# Altium footprint library Connector_PinSocket_2.54mm.PcbLib: 278 footprints (part 15 of 18)
Each footprint in its own frame and in the unit in brackets; x right, y up, seen from the top. Pads: shape width x height; smd on the part's side, far side on the other; paste and mask are expansions set on the pad; w line width, h text height; cw(c..) or ccw(c..) is an arc to the next point about the centre after c.
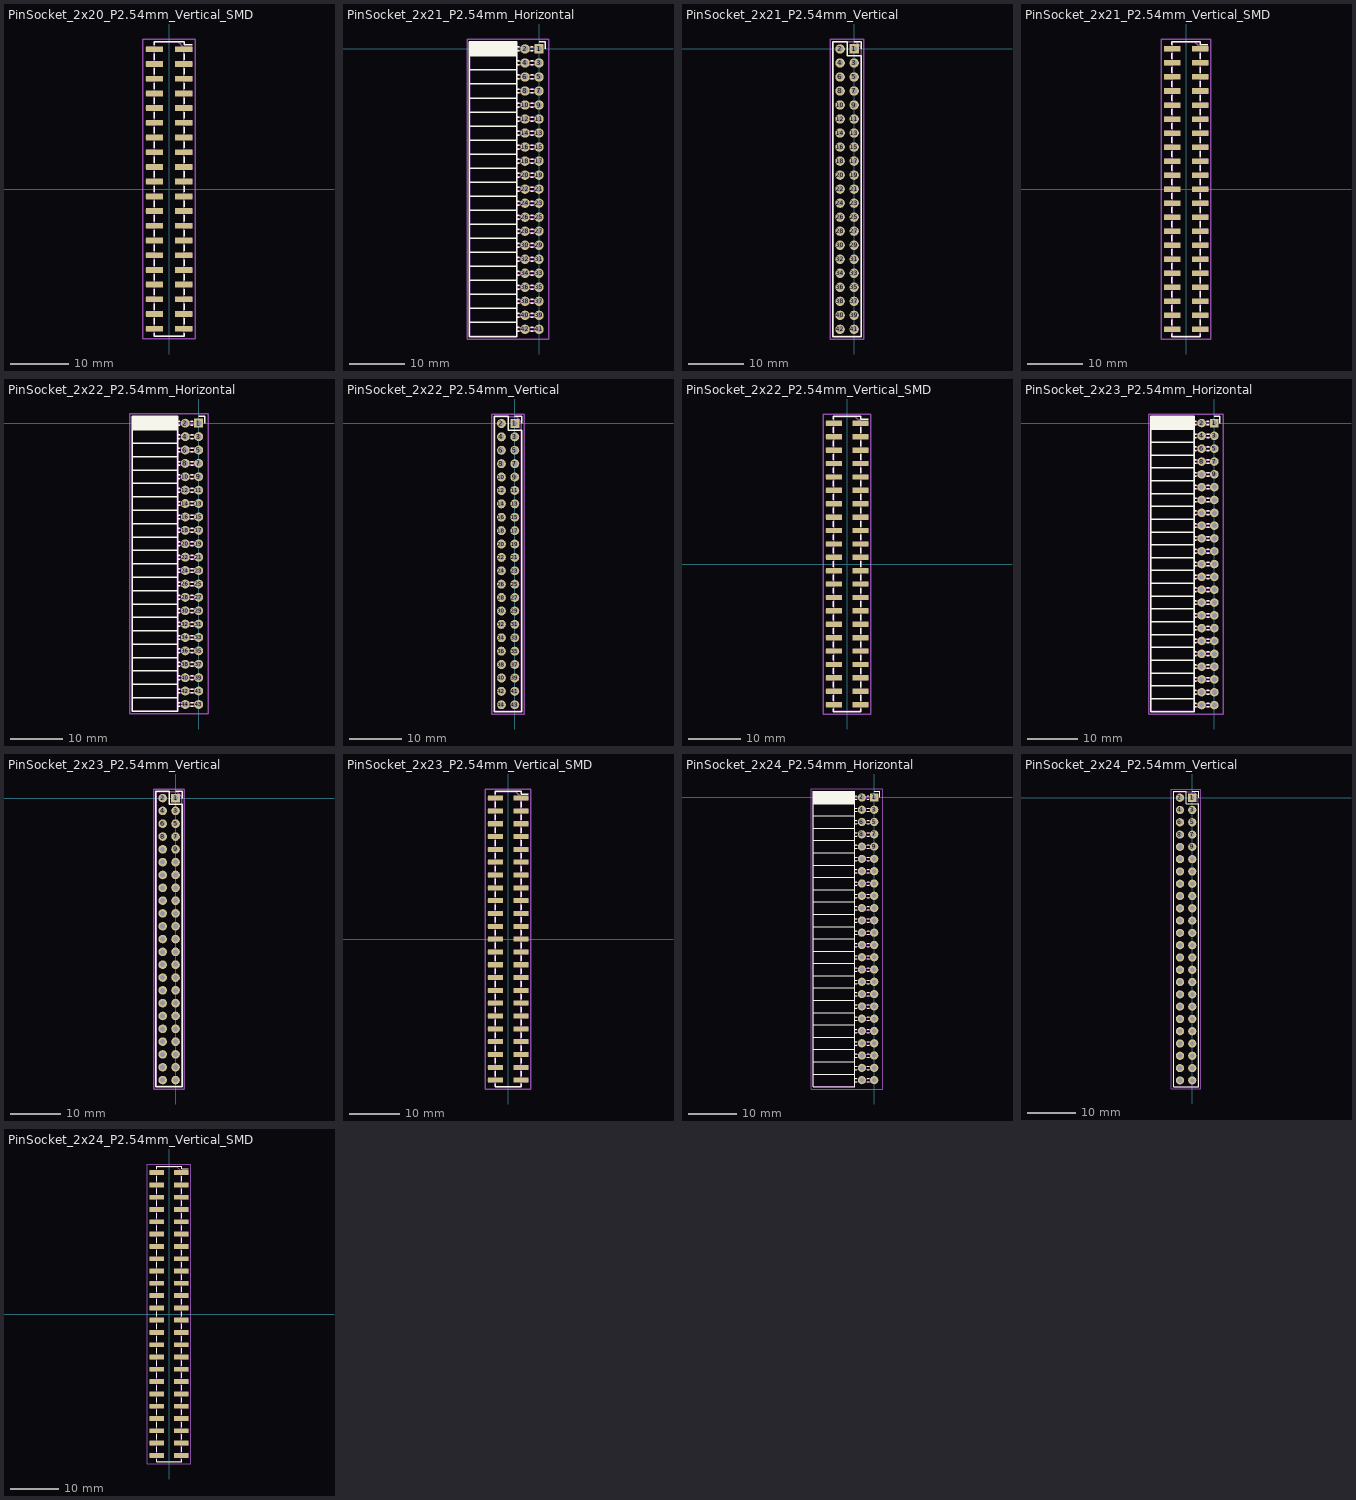
[diagram p14: the footprints below, top view; thin cyan lines are the x and y axes]

## PinSocket_2x20_P2.54mm_Vertical_SMD [mm]
pads (40):
  rect 3x1 smd: 1(2.52,24.13) 2(-2.52,24.13) 3(2.52,21.59) 4(-2.52,21.59) 5(2.52,19.05) 6(-2.52,19.05) 7(2.52,16.51) 8(-2.52,16.51) 9(2.52,13.97) 10(-2.52,13.97) 11(2.52,11.43) 12(-2.52,11.43) 13(2.52,8.89) 14(-2.52,8.89) 15(2.52,6.35) 16(-2.52,6.35) 17(2.52,3.81) 18(-2.52,3.81) 19(2.52,1.27) 20(-2.52,1.27) 21(2.52,-1.27) 22(-2.52,-1.27) 23(2.52,-3.81) 24(-2.52,-3.81) 25(2.52,-6.35) 26(-2.52,-6.35) 27(2.52,-8.89) 28(-2.52,-8.89) 29(2.52,-11.43) 30(-2.52,-11.43) 31(2.52,-13.97) 32(-2.52,-13.97) 33(2.52,-16.51) 34(-2.52,-16.51) 35(2.52,-19.05) 36(-2.52,-19.05) 37(2.52,-21.59) 38(-2.52,-21.59) 39(2.52,-24.13) 40(-2.52,-24.13)
F.SilkS:
  lines w0.254: -2.6,-24.89 -2.6,-25.46 2.6,-25.46 2.6,-24.89 ; -2.6,-23.37 -2.6,-22.35 ; -2.6,-20.83 -2.6,-19.81 ; -2.6,-18.29 -2.6,-17.27 ; -2.6,-15.75 -2.6,-14.73 ; -2.6,-13.21 -2.6,-12.19 ; -2.6,-10.67 -2.6,-9.65 ; -2.6,-8.13 -2.6,-7.11 ; -2.6,-5.59 -2.6,-4.57 ; -2.6,-3.05 -2.6,-2.03 ; -2.6,-0.51 -2.6,0.51 ; -2.6,2.03 -2.6,3.05 ; -2.6,4.57 -2.6,5.59 ; -2.6,7.11 -2.6,8.13 ; -2.6,9.65 -2.6,10.67 ; -2.6,12.19 -2.6,13.21 ; -2.6,14.73 -2.6,15.75 ; -2.6,17.27 -2.6,18.29 ; -2.6,19.81 -2.6,20.83 ; -2.6,22.35 -2.6,23.37 ; -2.6,24.89 -2.6,25.46 2.6,25.46 2.6,24.89 3.96,24.89 ; 2.6,-23.37 2.6,-22.35 ; 2.6,-20.83 2.6,-19.81 ; 2.6,-18.29 2.6,-17.27 ; 2.6,-15.75 2.6,-14.73 ; 2.6,-13.21 2.6,-12.19 ; 2.6,-10.67 2.6,-9.65 ; 2.6,-8.13 2.6,-7.11 ; 2.6,-5.59 2.6,-4.57 ; 2.6,-3.05 2.6,-2.03 ; 2.6,-0.51 2.6,0.51 ; 2.6,2.03 2.6,3.05 ; 2.6,4.57 2.6,5.59 ; 2.6,7.11 2.6,8.13 ; 2.6,9.65 2.6,10.67 ; 2.6,12.19 2.6,13.21 ; 2.6,14.73 2.6,15.75 ; 2.6,17.27 2.6,18.29 ; 2.6,19.81 2.6,20.83 ; 2.6,22.35 2.6,23.37
Top Assembly:
  lines w0.254: -2.54,-24.45 -3.92,-24.45 -3.92,-23.81 -2.54,-23.81 ; -2.54,-21.91 -3.92,-21.91 -3.92,-21.27 -2.54,-21.27 ; -2.54,-19.37 -3.92,-19.37 -3.92,-18.73 -2.54,-18.73 ; -2.54,-16.83 -3.92,-16.83 -3.92,-16.19 -2.54,-16.19 ; -2.54,-14.29 -3.92,-14.29 -3.92,-13.65 -2.54,-13.65 ; -2.54,-11.75 -3.92,-11.75 -3.92,-11.11 -2.54,-11.11 ; -2.54,-9.21 -3.92,-9.21 -3.92,-8.57 -2.54,-8.57 ; -2.54,-6.67 -3.92,-6.67 -3.92,-6.03 -2.54,-6.03 ; -2.54,-4.13 -3.92,-4.13 -3.92,-3.49 -2.54,-3.49 ; -2.54,-1.59 -3.92,-1.59 -3.92,-0.95 -2.54,-0.95 ; -2.54,0.95 -3.92,0.95 -3.92,1.59 -2.54,1.59 ; -2.54,3.49 -3.92,3.49 -3.92,4.13 -2.54,4.13 ; -2.54,6.03 -3.92,6.03 -3.92,6.67 -2.54,6.67 ; -2.54,8.57 -3.92,8.57 -3.92,9.21 -2.54,9.21 ; -2.54,11.11 -3.92,11.11 -3.92,11.75 -2.54,11.75 ; -2.54,13.65 -3.92,13.65 -3.92,14.29 -2.54,14.29 ; -2.54,16.19 -3.92,16.19 -3.92,16.83 -2.54,16.83 ; -2.54,18.73 -3.92,18.73 -3.92,19.37 -2.54,19.37 ; -2.54,21.27 -3.92,21.27 -3.92,21.91 -2.54,21.91 ; -2.54,23.81 -3.92,23.81 -3.92,24.45 -2.54,24.45 ; 2.54,-24.45 3.92,-24.45 3.92,-23.81 2.54,-23.81 ; 2.54,-21.91 3.92,-21.91 3.92,-21.27 2.54,-21.27 ; 2.54,-19.37 3.92,-19.37 3.92,-18.73 2.54,-18.73 ; 2.54,-16.83 3.92,-16.83 3.92,-16.19 2.54,-16.19 ; 2.54,-14.29 3.92,-14.29 3.92,-13.65 2.54,-13.65 ; 2.54,-11.75 3.92,-11.75 3.92,-11.11 2.54,-11.11 ; 2.54,-9.21 3.92,-9.21 3.92,-8.57 2.54,-8.57 ; 2.54,-6.67 3.92,-6.67 3.92,-6.03 2.54,-6.03 ; 2.54,-4.13 3.92,-4.13 3.92,-3.49 2.54,-3.49 ; 2.54,-1.59 3.92,-1.59 3.92,-0.95 2.54,-0.95 ; 2.54,0.95 3.92,0.95 3.92,1.59 2.54,1.59 ; 2.54,3.49 3.92,3.49 3.92,4.13 2.54,4.13 ; 2.54,6.03 3.92,6.03 3.92,6.67 2.54,6.67 ; 2.54,8.57 3.92,8.57 3.92,9.21 2.54,9.21 ; 2.54,11.11 3.92,11.11 3.92,11.75 2.54,11.75 ; 2.54,13.65 3.92,13.65 3.92,14.29 2.54,14.29 ; 2.54,16.19 3.92,16.19 3.92,16.83 2.54,16.83 ; 2.54,18.73 3.92,18.73 3.92,19.37 2.54,19.37 ; 2.54,21.27 3.92,21.27 3.92,21.91 2.54,21.91 ; 2.54,23.81 3.92,23.81 3.92,24.45 2.54,24.45 ; -2.54,-25.4 2.54,-25.4 2.54,24.4 1.54,25.4 -2.54,25.4 -2.54,-25.4
  text "'.Designator'" at 0.84,-4.047 h1
Top Courtyard:
  lines w0.254: -4.55,-25.9 4.5,-25.9 4.5,25.9 -4.55,25.9 -4.55,-25.9
Top Designator:
  text ".Designator" at -7.643,-0.508 h1.52

## PinSocket_2x21_P2.54mm_Horizontal [mm]
pads (42):
  rect 1.7x1.7 hole 1: 1(0,0)
  round 1.7 hole 1: 2(-2.54,0) 3(0,-2.54) 4(-2.54,-2.54) 5(0,-5.08) 6(-2.54,-5.08) 7(0,-7.62) 8(-2.54,-7.62) 9(0,-10.16) 10(-2.54,-10.16) 11(0,-12.7) 12(-2.54,-12.7) 13(0,-15.24) 14(-2.54,-15.24) 15(0,-17.78) 16(-2.54,-17.78) 17(0,-20.32) 18(-2.54,-20.32) 19(0,-22.86) 20(-2.54,-22.86) 21(0,-25.4) 22(-2.54,-25.4) 23(0,-27.94) 24(-2.54,-27.94) 25(0,-30.48) 26(-2.54,-30.48) 27(0,-33.02) 28(-2.54,-33.02) 29(0,-35.56) 30(-2.54,-35.56) 31(0,-38.1) 32(-2.54,-38.1) 33(0,-40.64) 34(-2.54,-40.64) 35(0,-43.18) 36(-2.54,-43.18) 37(0,-45.72) 38(-2.54,-45.72) 39(0,-48.26) 40(-2.54,-48.26) 41(0,-50.8) 42(-2.54,-50.8)
F.SilkS:
  lines w0.254: -12.63,-49.53 -4,-49.53 ; -12.63,-46.99 -4,-46.99 ; -12.63,-44.45 -4,-44.45 ; -12.63,-41.91 -4,-41.91 ; -12.63,-39.37 -4,-39.37 ; -12.63,-36.83 -4,-36.83 ; -12.63,-34.29 -4,-34.29 ; -12.63,-31.75 -4,-31.75 ; -12.63,-29.21 -4,-29.21 ; -12.63,-26.67 -4,-26.67 ; -12.63,-24.13 -4,-24.13 ; -12.63,-21.59 -4,-21.59 ; -12.63,-19.05 -4,-19.05 ; -12.63,-16.51 -4,-16.51 ; -12.63,-13.97 -4,-13.97 ; -12.63,-11.43 -4,-11.43 ; -12.63,-8.89 -4,-8.89 ; -12.63,-6.35 -4,-6.35 ; -12.63,-3.81 -4,-3.81 ; -12.63,-1.27 -4,-1.27 ; -12.63,-1.152 -4,-1.152 ; -12.63,-1.034 -4,-1.034 ; -12.63,-0.916 -4,-0.916 ; -12.63,-0.798 -4,-0.798 ; -12.63,-0.68 -4,-0.68 ; -12.63,-0.561 -4,-0.561 ; -12.63,-0.443 -4,-0.443 ; -12.63,-0.325 -4,-0.325 ; -12.63,-0.207 -4,-0.207 ; -12.63,-0.089 -4,-0.089 ; -12.63,0.029 -4,0.029 ; -12.63,0.147 -4,0.147 ; -12.63,0.265 -4,0.265 ; -12.63,0.383 -4,0.383 ; -12.63,0.501 -4,0.501 ; -12.63,0.62 -4,0.62 ; -12.63,0.738 -4,0.738 ; -12.63,0.856 -4,0.856 ; -12.63,0.974 -4,0.974 ; -12.63,1.092 -4,1.092 ; -12.63,1.21 -4,1.21 ; -4,-51.16 -3.59,-51.16 ; -4,-50.44 -3.59,-50.44 ; -4,-48.62 -3.59,-48.62 ; -4,-47.9 -3.59,-47.9 ; -4,-46.08 -3.59,-46.08 ; -4,-45.36 -3.59,-45.36 ; -4,-43.54 -3.59,-43.54 ; -4,-42.82 -3.59,-42.82 ; -4,-41 -3.59,-41 ; -4,-40.28 -3.59,-40.28 ; -4,-38.46 -3.59,-38.46 ; -4,-37.74 -3.59,-37.74 ; -4,-35.92 -3.59,-35.92 ; -4,-35.2 -3.59,-35.2 ; -4,-33.38 -3.59,-33.38 ; -4,-32.66 -3.59,-32.66 ; -4,-30.84 -3.59,-30.84 ; -4,-30.12 -3.59,-30.12 ; -4,-28.3 -3.59,-28.3 ; -4,-27.58 -3.59,-27.58 ; -4,-25.76 -3.59,-25.76 ; -4,-25.04 -3.59,-25.04 ; -4,-23.22 -3.59,-23.22 ; -4,-22.5 -3.59,-22.5 ; -4,-20.68 -3.59,-20.68 ; -4,-19.96 -3.59,-19.96 ; -4,-18.14 -3.59,-18.14 ; -4,-17.42 -3.59,-17.42 ; -4,-15.6 -3.59,-15.6 ; -4,-14.88 -3.59,-14.88 ; -4,-13.06 -3.59,-13.06 ; -4,-12.34 -3.59,-12.34 ; -4,-10.52 -3.59,-10.52 ; -4,-9.8 -3.59,-9.8 ; -4,-7.98 -3.59,-7.98 ; -4,-7.26 -3.59,-7.26 ; -4,-5.44 -3.59,-5.44 ; -4,-4.72 -3.59,-4.72 ; -4,-2.9 -3.59,-2.9 ; -4,-2.18 -3.59,-2.18 ; -4,-0.36 -3.59,-0.36 ; -4,0.36 -3.59,0.36 ; -1.49,-51.16 -1.05,-51.16 ; -1.49,-50.44 -1.05,-50.44 ; -1.49,-48.62 -1.05,-48.62 ; -1.49,-47.9 -1.05,-47.9 ; -1.49,-46.08 -1.05,-46.08 ; -1.49,-45.36 -1.05,-45.36 ; -1.49,-43.54 -1.05,-43.54 ; -1.49,-42.82 -1.05,-42.82 ; -1.49,-41 -1.05,-41 ; -1.49,-40.28 -1.05,-40.28 ; -1.49,-38.46 -1.05,-38.46 ; -1.49,-37.74 -1.05,-37.74 ; -1.49,-35.92 -1.05,-35.92 ; -1.49,-35.2 -1.05,-35.2 ; -1.49,-33.38 -1.05,-33.38 ; -1.49,-32.66 -1.05,-32.66 ; -1.49,-30.84 -1.05,-30.84 ; -1.49,-30.12 -1.05,-30.12 ; -1.49,-28.3 -1.05,-28.3 ; -1.49,-27.58 -1.05,-27.58 ; -1.49,-25.76 -1.05,-25.76 ; -1.49,-25.04 -1.05,-25.04 ; -1.49,-23.22 -1.05,-23.22 ; -1.49,-22.5 -1.05,-22.5 ; -1.49,-20.68 -1.05,-20.68 ; -1.49,-19.96 -1.05,-19.96 ; -1.49,-18.14 -1.05,-18.14 ; -1.49,-17.42 -1.05,-17.42 ; -1.49,-15.6 -1.05,-15.6 ; -1.49,-14.88 -1.05,-14.88 ; -1.49,-13.06 -1.05,-13.06 ; -1.49,-12.34 -1.05,-12.34 ; -1.49,-10.52 -1.05,-10.52 ; -1.49,-9.8 -1.05,-9.8 ; -1.49,-7.98 -1.05,-7.98 ; -1.49,-7.26 -1.05,-7.26 ; -1.49,-5.44 -1.05,-5.44 ; -1.49,-4.72 -1.05,-4.72 ; -1.49,-2.9 -1.05,-2.9 ; -1.49,-2.18 -1.05,-2.18 ; -1.49,-0.36 -1.11,-0.36 ; -1.49,0.36 -1.11,0.36 ; 0,1.33 1.11,1.33 1.11,0 ; -12.63,-52.13 -4,-52.13 -4,1.33 -12.63,1.33 -12.63,-52.13
Top Assembly:
  lines w0.254: -4.06,-51.1 0,-51.1 0,-50.5 -4.06,-50.5 ; -4.06,-48.56 0,-48.56 0,-47.96 -4.06,-47.96 ; -4.06,-46.02 0,-46.02 0,-45.42 -4.06,-45.42 ; -4.06,-43.48 0,-43.48 0,-42.88 -4.06,-42.88 ; -4.06,-40.94 0,-40.94 0,-40.34 -4.06,-40.34 ; -4.06,-38.4 0,-38.4 0,-37.8 -4.06,-37.8 ; -4.06,-35.86 0,-35.86 0,-35.26 -4.06,-35.26 ; -4.06,-33.32 0,-33.32 0,-32.72 -4.06,-32.72 ; -4.06,-30.78 0,-30.78 0,-30.18 -4.06,-30.18 ; -4.06,-28.24 0,-28.24 0,-27.64 -4.06,-27.64 ; -4.06,-25.7 0,-25.7 0,-25.1 -4.06,-25.1 ; -4.06,-23.16 0,-23.16 0,-22.56 -4.06,-22.56 ; -4.06,-20.62 0,-20.62 0,-20.02 -4.06,-20.02 ; -4.06,-18.08 0,-18.08 0,-17.48 -4.06,-17.48 ; -4.06,-15.54 0,-15.54 0,-14.94 -4.06,-14.94 ; -4.06,-13 0,-13 0,-12.4 -4.06,-12.4 ; -4.06,-10.46 0,-10.46 0,-9.86 -4.06,-9.86 ; -4.06,-7.92 0,-7.92 0,-7.32 -4.06,-7.32 ; -4.06,-5.38 0,-5.38 0,-4.78 -4.06,-4.78 ; -4.06,-2.84 0,-2.84 0,-2.24 -4.06,-2.24 ; -4.06,-0.3 0,-0.3 0,0.3 -4.06,0.3 ; -4.06,0.3 -4.06,-52.07 -12.57,-52.07 -12.57,1.27 -5.03,1.27 -4.06,0.3
  text "'.Designator'" at -7.475,-29.447 h1
Top Courtyard:
  lines w0.254: -13.05,-52.55 1.8,-52.55 1.8,1.8 -13.05,1.8 -13.05,-52.55
Top Designator:
  text ".Designator" at -13.243,-25.883 h1.52

## PinSocket_2x21_P2.54mm_Vertical [mm]
pads (42):
  rect 1.7x1.7 hole 1: 1(0,0)
  round 1.7 hole 1: 2(-2.54,0) 3(0,-2.54) 4(-2.54,-2.54) 5(0,-5.08) 6(-2.54,-5.08) 7(0,-7.62) 8(-2.54,-7.62) 9(0,-10.16) 10(-2.54,-10.16) 11(0,-12.7) 12(-2.54,-12.7) 13(0,-15.24) 14(-2.54,-15.24) 15(0,-17.78) 16(-2.54,-17.78) 17(0,-20.32) 18(-2.54,-20.32) 19(0,-22.86) 20(-2.54,-22.86) 21(0,-25.4) 22(-2.54,-25.4) 23(0,-27.94) 24(-2.54,-27.94) 25(0,-30.48) 26(-2.54,-30.48) 27(0,-33.02) 28(-2.54,-33.02) 29(0,-35.56) 30(-2.54,-35.56) 31(0,-38.1) 32(-2.54,-38.1) 33(0,-40.64) 34(-2.54,-40.64) 35(0,-43.18) 36(-2.54,-43.18) 37(0,-45.72) 38(-2.54,-45.72) 39(0,-48.26) 40(-2.54,-48.26) 41(0,-50.8) 42(-2.54,-50.8)
F.SilkS:
  lines w0.254: 0,1.33 1.33,1.33 1.33,0 ; -3.87,-52.13 1.33,-52.13 1.33,-1.27 -1.27,-1.27 -1.27,1.33 -3.87,1.33 -3.87,-52.13
Top Assembly:
  lines w0.254: -3.81,-52.07 1.27,-52.07 1.27,0.27 0.27,1.27 -3.81,1.27 -3.81,-52.07
  text "'.Designator'" at -0.43,-29.447 h1
Top Courtyard:
  lines w0.254: -4.34,-52.55 1.76,-52.55 1.76,1.8 -4.34,1.8 -4.34,-52.55
Top Designator:
  text ".Designator" at -8.908,-25.883 h1.52

## PinSocket_2x21_P2.54mm_Vertical_SMD [mm]
pads (42):
  rect 3x1 smd: 1(2.52,25.4) 2(-2.52,25.4) 3(2.52,22.86) 4(-2.52,22.86) 5(2.52,20.32) 6(-2.52,20.32) 7(2.52,17.78) 8(-2.52,17.78) 9(2.52,15.24) 10(-2.52,15.24) 11(2.52,12.7) 12(-2.52,12.7) 13(2.52,10.16) 14(-2.52,10.16) 15(2.52,7.62) 16(-2.52,7.62) 17(2.52,5.08) 18(-2.52,5.08) 19(2.52,2.54) 20(-2.52,2.54) 21(2.52,0) 22(-2.52,0) 23(2.52,-2.54) 24(-2.52,-2.54) 25(2.52,-5.08) 26(-2.52,-5.08) 27(2.52,-7.62) 28(-2.52,-7.62) 29(2.52,-10.16) 30(-2.52,-10.16) 31(2.52,-12.7) 32(-2.52,-12.7) 33(2.52,-15.24) 34(-2.52,-15.24) 35(2.52,-17.78) 36(-2.52,-17.78) 37(2.52,-20.32) 38(-2.52,-20.32) 39(2.52,-22.86) 40(-2.52,-22.86) 41(2.52,-25.4) 42(-2.52,-25.4)
F.SilkS:
  lines w0.254: -2.6,-26.16 -2.6,-26.73 2.6,-26.73 2.6,-26.16 ; -2.6,-24.64 -2.6,-23.62 ; -2.6,-22.1 -2.6,-21.08 ; -2.6,-19.56 -2.6,-18.54 ; -2.6,-17.02 -2.6,-16 ; -2.6,-14.48 -2.6,-13.46 ; -2.6,-11.94 -2.6,-10.92 ; -2.6,-9.4 -2.6,-8.38 ; -2.6,-6.86 -2.6,-5.84 ; -2.6,-4.32 -2.6,-3.3 ; -2.6,-1.78 -2.6,-0.76 ; -2.6,0.76 -2.6,1.78 ; -2.6,3.3 -2.6,4.32 ; -2.6,5.84 -2.6,6.86 ; -2.6,8.38 -2.6,9.4 ; -2.6,10.92 -2.6,11.94 ; -2.6,13.46 -2.6,14.48 ; -2.6,16 -2.6,17.02 ; -2.6,18.54 -2.6,19.56 ; -2.6,21.08 -2.6,22.1 ; -2.6,23.62 -2.6,24.64 ; -2.6,26.16 -2.6,26.73 2.6,26.73 2.6,26.16 3.96,26.16 ; 2.6,-24.64 2.6,-23.62 ; 2.6,-22.1 2.6,-21.08 ; 2.6,-19.56 2.6,-18.54 ; 2.6,-17.02 2.6,-16 ; 2.6,-14.48 2.6,-13.46 ; 2.6,-11.94 2.6,-10.92 ; 2.6,-9.4 2.6,-8.38 ; 2.6,-6.86 2.6,-5.84 ; 2.6,-4.32 2.6,-3.3 ; 2.6,-1.78 2.6,-0.76 ; 2.6,0.76 2.6,1.78 ; 2.6,3.3 2.6,4.32 ; 2.6,5.84 2.6,6.86 ; 2.6,8.38 2.6,9.4 ; 2.6,10.92 2.6,11.94 ; 2.6,13.46 2.6,14.48 ; 2.6,16 2.6,17.02 ; 2.6,18.54 2.6,19.56 ; 2.6,21.08 2.6,22.1 ; 2.6,23.62 2.6,24.64
Top Assembly:
  lines w0.254: -2.54,-25.72 -3.92,-25.72 -3.92,-25.08 -2.54,-25.08 ; -2.54,-23.18 -3.92,-23.18 -3.92,-22.54 -2.54,-22.54 ; -2.54,-20.64 -3.92,-20.64 -3.92,-20 -2.54,-20 ; -2.54,-18.1 -3.92,-18.1 -3.92,-17.46 -2.54,-17.46 ; -2.54,-15.56 -3.92,-15.56 -3.92,-14.92 -2.54,-14.92 ; -2.54,-13.02 -3.92,-13.02 -3.92,-12.38 -2.54,-12.38 ; -2.54,-10.48 -3.92,-10.48 -3.92,-9.84 -2.54,-9.84 ; -2.54,-7.94 -3.92,-7.94 -3.92,-7.3 -2.54,-7.3 ; -2.54,-5.4 -3.92,-5.4 -3.92,-4.76 -2.54,-4.76 ; -2.54,-2.86 -3.92,-2.86 -3.92,-2.22 -2.54,-2.22 ; -2.54,-0.32 -3.92,-0.32 -3.92,0.32 -2.54,0.32 ; -2.54,2.22 -3.92,2.22 -3.92,2.86 -2.54,2.86 ; -2.54,4.76 -3.92,4.76 -3.92,5.4 -2.54,5.4 ; -2.54,7.3 -3.92,7.3 -3.92,7.94 -2.54,7.94 ; -2.54,9.84 -3.92,9.84 -3.92,10.48 -2.54,10.48 ; -2.54,12.38 -3.92,12.38 -3.92,13.02 -2.54,13.02 ; -2.54,14.92 -3.92,14.92 -3.92,15.56 -2.54,15.56 ; -2.54,17.46 -3.92,17.46 -3.92,18.1 -2.54,18.1 ; -2.54,20 -3.92,20 -3.92,20.64 -2.54,20.64 ; -2.54,22.54 -3.92,22.54 -3.92,23.18 -2.54,23.18 ; -2.54,25.08 -3.92,25.08 -3.92,25.72 -2.54,25.72 ; 2.54,-25.72 3.92,-25.72 3.92,-25.08 2.54,-25.08 ; 2.54,-23.18 3.92,-23.18 3.92,-22.54 2.54,-22.54 ; 2.54,-20.64 3.92,-20.64 3.92,-20 2.54,-20 ; 2.54,-18.1 3.92,-18.1 3.92,-17.46 2.54,-17.46 ; 2.54,-15.56 3.92,-15.56 3.92,-14.92 2.54,-14.92 ; 2.54,-13.02 3.92,-13.02 3.92,-12.38 2.54,-12.38 ; 2.54,-10.48 3.92,-10.48 3.92,-9.84 2.54,-9.84 ; 2.54,-7.94 3.92,-7.94 3.92,-7.3 2.54,-7.3 ; 2.54,-5.4 3.92,-5.4 3.92,-4.76 2.54,-4.76 ; 2.54,-2.86 3.92,-2.86 3.92,-2.22 2.54,-2.22 ; 2.54,-0.32 3.92,-0.32 3.92,0.32 2.54,0.32 ; 2.54,2.22 3.92,2.22 3.92,2.86 2.54,2.86 ; 2.54,4.76 3.92,4.76 3.92,5.4 2.54,5.4 ; 2.54,7.3 3.92,7.3 3.92,7.94 2.54,7.94 ; 2.54,9.84 3.92,9.84 3.92,10.48 2.54,10.48 ; 2.54,12.38 3.92,12.38 3.92,13.02 2.54,13.02 ; 2.54,14.92 3.92,14.92 3.92,15.56 2.54,15.56 ; 2.54,17.46 3.92,17.46 3.92,18.1 2.54,18.1 ; 2.54,20 3.92,20 3.92,20.64 2.54,20.64 ; 2.54,22.54 3.92,22.54 3.92,23.18 2.54,23.18 ; 2.54,25.08 3.92,25.08 3.92,25.72 2.54,25.72 ; -2.54,-26.67 2.54,-26.67 2.54,25.67 1.54,26.67 -2.54,26.67 -2.54,-26.67
  text "'.Designator'" at 0.84,-4.047 h1
Top Courtyard:
  lines w0.254: -4.55,-27.15 4.5,-27.15 4.5,27.2 -4.55,27.2 -4.55,-27.15
Top Designator:
  text ".Designator" at -7.643,-0.483 h1.52

## PinSocket_2x22_P2.54mm_Horizontal [mm]
pads (44):
  rect 1.7x1.7 hole 1: 1(0,0)
  round 1.7 hole 1: 2(-2.54,0) 3(0,-2.54) 4(-2.54,-2.54) 5(0,-5.08) 6(-2.54,-5.08) 7(0,-7.62) 8(-2.54,-7.62) 9(0,-10.16) 10(-2.54,-10.16) 11(0,-12.7) 12(-2.54,-12.7) 13(0,-15.24) 14(-2.54,-15.24) 15(0,-17.78) 16(-2.54,-17.78) 17(0,-20.32) 18(-2.54,-20.32) 19(0,-22.86) 20(-2.54,-22.86) 21(0,-25.4) 22(-2.54,-25.4) 23(0,-27.94) 24(-2.54,-27.94) 25(0,-30.48) 26(-2.54,-30.48) 27(0,-33.02) 28(-2.54,-33.02) 29(0,-35.56) 30(-2.54,-35.56) 31(0,-38.1) 32(-2.54,-38.1) 33(0,-40.64) 34(-2.54,-40.64) 35(0,-43.18) 36(-2.54,-43.18) 37(0,-45.72) 38(-2.54,-45.72) 39(0,-48.26) 40(-2.54,-48.26) 41(0,-50.8) 42(-2.54,-50.8) 43(0,-53.34) 44(-2.54,-53.34)
F.SilkS:
  lines w0.254: -12.63,-52.07 -4,-52.07 ; -12.63,-49.53 -4,-49.53 ; -12.63,-46.99 -4,-46.99 ; -12.63,-44.45 -4,-44.45 ; -12.63,-41.91 -4,-41.91 ; -12.63,-39.37 -4,-39.37 ; -12.63,-36.83 -4,-36.83 ; -12.63,-34.29 -4,-34.29 ; -12.63,-31.75 -4,-31.75 ; -12.63,-29.21 -4,-29.21 ; -12.63,-26.67 -4,-26.67 ; -12.63,-24.13 -4,-24.13 ; -12.63,-21.59 -4,-21.59 ; -12.63,-19.05 -4,-19.05 ; -12.63,-16.51 -4,-16.51 ; -12.63,-13.97 -4,-13.97 ; -12.63,-11.43 -4,-11.43 ; -12.63,-8.89 -4,-8.89 ; -12.63,-6.35 -4,-6.35 ; -12.63,-3.81 -4,-3.81 ; -12.63,-1.27 -4,-1.27 ; -12.63,-1.152 -4,-1.152 ; -12.63,-1.034 -4,-1.034 ; -12.63,-0.916 -4,-0.916 ; -12.63,-0.798 -4,-0.798 ; -12.63,-0.68 -4,-0.68 ; -12.63,-0.561 -4,-0.561 ; -12.63,-0.443 -4,-0.443 ; -12.63,-0.325 -4,-0.325 ; -12.63,-0.207 -4,-0.207 ; -12.63,-0.089 -4,-0.089 ; -12.63,0.029 -4,0.029 ; -12.63,0.147 -4,0.147 ; -12.63,0.265 -4,0.265 ; -12.63,0.383 -4,0.383 ; -12.63,0.501 -4,0.501 ; -12.63,0.62 -4,0.62 ; -12.63,0.738 -4,0.738 ; -12.63,0.856 -4,0.856 ; -12.63,0.974 -4,0.974 ; -12.63,1.092 -4,1.092 ; -12.63,1.21 -4,1.21 ; -4,-53.7 -3.59,-53.7 ; -4,-52.98 -3.59,-52.98 ; -4,-51.16 -3.59,-51.16 ; -4,-50.44 -3.59,-50.44 ; -4,-48.62 -3.59,-48.62 ; -4,-47.9 -3.59,-47.9 ; -4,-46.08 -3.59,-46.08 ; -4,-45.36 -3.59,-45.36 ; -4,-43.54 -3.59,-43.54 ; -4,-42.82 -3.59,-42.82 ; -4,-41 -3.59,-41 ; -4,-40.28 -3.59,-40.28 ; -4,-38.46 -3.59,-38.46 ; -4,-37.74 -3.59,-37.74 ; -4,-35.92 -3.59,-35.92 ; -4,-35.2 -3.59,-35.2 ; -4,-33.38 -3.59,-33.38 ; -4,-32.66 -3.59,-32.66 ; -4,-30.84 -3.59,-30.84 ; -4,-30.12 -3.59,-30.12 ; -4,-28.3 -3.59,-28.3 ; -4,-27.58 -3.59,-27.58 ; -4,-25.76 -3.59,-25.76 ; -4,-25.04 -3.59,-25.04 ; -4,-23.22 -3.59,-23.22 ; -4,-22.5 -3.59,-22.5 ; -4,-20.68 -3.59,-20.68 ; -4,-19.96 -3.59,-19.96 ; -4,-18.14 -3.59,-18.14 ; -4,-17.42 -3.59,-17.42 ; -4,-15.6 -3.59,-15.6 ; -4,-14.88 -3.59,-14.88 ; -4,-13.06 -3.59,-13.06 ; -4,-12.34 -3.59,-12.34 ; -4,-10.52 -3.59,-10.52 ; -4,-9.8 -3.59,-9.8 ; -4,-7.98 -3.59,-7.98 ; -4,-7.26 -3.59,-7.26 ; -4,-5.44 -3.59,-5.44 ; -4,-4.72 -3.59,-4.72 ; -4,-2.9 -3.59,-2.9 ; -4,-2.18 -3.59,-2.18 ; -4,-0.36 -3.59,-0.36 ; -4,0.36 -3.59,0.36 ; -1.49,-53.7 -1.05,-53.7 ; -1.49,-52.98 -1.05,-52.98 ; -1.49,-51.16 -1.05,-51.16 ; -1.49,-50.44 -1.05,-50.44 ; -1.49,-48.62 -1.05,-48.62 ; -1.49,-47.9 -1.05,-47.9 ; -1.49,-46.08 -1.05,-46.08 ; -1.49,-45.36 -1.05,-45.36 ; -1.49,-43.54 -1.05,-43.54 ; -1.49,-42.82 -1.05,-42.82 ; -1.49,-41 -1.05,-41 ; -1.49,-40.28 -1.05,-40.28 ; -1.49,-38.46 -1.05,-38.46 ; -1.49,-37.74 -1.05,-37.74 ; -1.49,-35.92 -1.05,-35.92 ; -1.49,-35.2 -1.05,-35.2 ; -1.49,-33.38 -1.05,-33.38 ; -1.49,-32.66 -1.05,-32.66 ; -1.49,-30.84 -1.05,-30.84 ; -1.49,-30.12 -1.05,-30.12 ; -1.49,-28.3 -1.05,-28.3 ; -1.49,-27.58 -1.05,-27.58 ; -1.49,-25.76 -1.05,-25.76 ; -1.49,-25.04 -1.05,-25.04 ; -1.49,-23.22 -1.05,-23.22 ; -1.49,-22.5 -1.05,-22.5 ; -1.49,-20.68 -1.05,-20.68 ; -1.49,-19.96 -1.05,-19.96 ; -1.49,-18.14 -1.05,-18.14 ; -1.49,-17.42 -1.05,-17.42 ; -1.49,-15.6 -1.05,-15.6 ; -1.49,-14.88 -1.05,-14.88 ; -1.49,-13.06 -1.05,-13.06 ; -1.49,-12.34 -1.05,-12.34 ; -1.49,-10.52 -1.05,-10.52 ; -1.49,-9.8 -1.05,-9.8 ; -1.49,-7.98 -1.05,-7.98 ; -1.49,-7.26 -1.05,-7.26 ; -1.49,-5.44 -1.05,-5.44 ; -1.49,-4.72 -1.05,-4.72 ; -1.49,-2.9 -1.05,-2.9 ; -1.49,-2.18 -1.05,-2.18 ; -1.49,-0.36 -1.11,-0.36 ; -1.49,0.36 -1.11,0.36 ; 0,1.33 1.11,1.33 1.11,0 ; -12.63,-54.67 -4,-54.67 -4,1.33 -12.63,1.33 -12.63,-54.67
Top Assembly:
  lines w0.254: -4.06,-53.64 0,-53.64 0,-53.04 -4.06,-53.04 ; -4.06,-51.1 0,-51.1 0,-50.5 -4.06,-50.5 ; -4.06,-48.56 0,-48.56 0,-47.96 -4.06,-47.96 ; -4.06,-46.02 0,-46.02 0,-45.42 -4.06,-45.42 ; -4.06,-43.48 0,-43.48 0,-42.88 -4.06,-42.88 ; -4.06,-40.94 0,-40.94 0,-40.34 -4.06,-40.34 ; -4.06,-38.4 0,-38.4 0,-37.8 -4.06,-37.8 ; -4.06,-35.86 0,-35.86 0,-35.26 -4.06,-35.26 ; -4.06,-33.32 0,-33.32 0,-32.72 -4.06,-32.72 ; -4.06,-30.78 0,-30.78 0,-30.18 -4.06,-30.18 ; -4.06,-28.24 0,-28.24 0,-27.64 -4.06,-27.64 ; -4.06,-25.7 0,-25.7 0,-25.1 -4.06,-25.1 ; -4.06,-23.16 0,-23.16 0,-22.56 -4.06,-22.56 ; -4.06,-20.62 0,-20.62 0,-20.02 -4.06,-20.02 ; -4.06,-18.08 0,-18.08 0,-17.48 -4.06,-17.48 ; -4.06,-15.54 0,-15.54 0,-14.94 -4.06,-14.94 ; -4.06,-13 0,-13 0,-12.4 -4.06,-12.4 ; -4.06,-10.46 0,-10.46 0,-9.86 -4.06,-9.86 ; -4.06,-7.92 0,-7.92 0,-7.32 -4.06,-7.32 ; -4.06,-5.38 0,-5.38 0,-4.78 -4.06,-4.78 ; -4.06,-2.84 0,-2.84 0,-2.24 -4.06,-2.24 ; -4.06,-0.3 0,-0.3 0,0.3 -4.06,0.3 ; -4.06,0.3 -4.06,-54.61 -12.57,-54.61 -12.57,1.27 -5.03,1.27 -4.06,0.3
  text "'.Designator'" at -7.475,-30.717 h1
Top Courtyard:
  lines w0.254: -13.05,-55.15 1.8,-55.15 1.8,1.75 -13.05,1.75 -13.05,-55.15
Top Designator:
  text ".Designator" at -13.243,-27.208 h1.52

## PinSocket_2x22_P2.54mm_Vertical [mm]
pads (44):
  rect 1.7x1.7 hole 1: 1(0,0)
  round 1.7 hole 1: 2(-2.54,0) 3(0,-2.54) 4(-2.54,-2.54) 5(0,-5.08) 6(-2.54,-5.08) 7(0,-7.62) 8(-2.54,-7.62) 9(0,-10.16) 10(-2.54,-10.16) 11(0,-12.7) 12(-2.54,-12.7) 13(0,-15.24) 14(-2.54,-15.24) 15(0,-17.78) 16(-2.54,-17.78) 17(0,-20.32) 18(-2.54,-20.32) 19(0,-22.86) 20(-2.54,-22.86) 21(0,-25.4) 22(-2.54,-25.4) 23(0,-27.94) 24(-2.54,-27.94) 25(0,-30.48) 26(-2.54,-30.48) 27(0,-33.02) 28(-2.54,-33.02) 29(0,-35.56) 30(-2.54,-35.56) 31(0,-38.1) 32(-2.54,-38.1) 33(0,-40.64) 34(-2.54,-40.64) 35(0,-43.18) 36(-2.54,-43.18) 37(0,-45.72) 38(-2.54,-45.72) 39(0,-48.26) 40(-2.54,-48.26) 41(0,-50.8) 42(-2.54,-50.8) 43(0,-53.34) 44(-2.54,-53.34)
F.SilkS:
  lines w0.254: 0,1.33 1.33,1.33 1.33,0 ; -3.87,-54.67 1.33,-54.67 1.33,-1.27 -1.27,-1.27 -1.27,1.33 -3.87,1.33 -3.87,-54.67
Top Assembly:
  lines w0.254: -3.81,-54.61 1.27,-54.61 1.27,0.27 0.27,1.27 -3.81,1.27 -3.81,-54.61
  text "'.Designator'" at -0.43,-30.717 h1
Top Courtyard:
  lines w0.254: -4.34,-55.1 1.76,-55.1 1.76,1.8 -4.34,1.8 -4.34,-55.1
Top Designator:
  text ".Designator" at -8.908,-27.158 h1.52

## PinSocket_2x22_P2.54mm_Vertical_SMD [mm]
pads (44):
  rect 3x1 smd: 1(2.52,26.67) 2(-2.52,26.67) 3(2.52,24.13) 4(-2.52,24.13) 5(2.52,21.59) 6(-2.52,21.59) 7(2.52,19.05) 8(-2.52,19.05) 9(2.52,16.51) 10(-2.52,16.51) 11(2.52,13.97) 12(-2.52,13.97) 13(2.52,11.43) 14(-2.52,11.43) 15(2.52,8.89) 16(-2.52,8.89) 17(2.52,6.35) 18(-2.52,6.35) 19(2.52,3.81) 20(-2.52,3.81) 21(2.52,1.27) 22(-2.52,1.27) 23(2.52,-1.27) 24(-2.52,-1.27) 25(2.52,-3.81) 26(-2.52,-3.81) 27(2.52,-6.35) 28(-2.52,-6.35) 29(2.52,-8.89) 30(-2.52,-8.89) 31(2.52,-11.43) 32(-2.52,-11.43) 33(2.52,-13.97) 34(-2.52,-13.97) 35(2.52,-16.51) 36(-2.52,-16.51) 37(2.52,-19.05) 38(-2.52,-19.05) 39(2.52,-21.59) 40(-2.52,-21.59) 41(2.52,-24.13) 42(-2.52,-24.13) 43(2.52,-26.67) 44(-2.52,-26.67)
F.SilkS:
  lines w0.254: -2.6,-27.43 -2.6,-28 2.6,-28 2.6,-27.43 ; -2.6,-25.91 -2.6,-24.89 ; -2.6,-23.37 -2.6,-22.35 ; -2.6,-20.83 -2.6,-19.81 ; -2.6,-18.29 -2.6,-17.27 ; -2.6,-15.75 -2.6,-14.73 ; -2.6,-13.21 -2.6,-12.19 ; -2.6,-10.67 -2.6,-9.65 ; -2.6,-8.13 -2.6,-7.11 ; -2.6,-5.59 -2.6,-4.57 ; -2.6,-3.05 -2.6,-2.03 ; -2.6,-0.51 -2.6,0.51 ; -2.6,2.03 -2.6,3.05 ; -2.6,4.57 -2.6,5.59 ; -2.6,7.11 -2.6,8.13 ; -2.6,9.65 -2.6,10.67 ; -2.6,12.19 -2.6,13.21 ; -2.6,14.73 -2.6,15.75 ; -2.6,17.27 -2.6,18.29 ; -2.6,19.81 -2.6,20.83 ; -2.6,22.35 -2.6,23.37 ; -2.6,24.89 -2.6,25.91 ; -2.6,27.43 -2.6,28 2.6,28 2.6,27.43 3.96,27.43 ; 2.6,-25.91 2.6,-24.89 ; 2.6,-23.37 2.6,-22.35 ; 2.6,-20.83 2.6,-19.81 ; 2.6,-18.29 2.6,-17.27 ; 2.6,-15.75 2.6,-14.73 ; 2.6,-13.21 2.6,-12.19 ; 2.6,-10.67 2.6,-9.65 ; 2.6,-8.13 2.6,-7.11 ; 2.6,-5.59 2.6,-4.57 ; 2.6,-3.05 2.6,-2.03 ; 2.6,-0.51 2.6,0.51 ; 2.6,2.03 2.6,3.05 ; 2.6,4.57 2.6,5.59 ; 2.6,7.11 2.6,8.13 ; 2.6,9.65 2.6,10.67 ; 2.6,12.19 2.6,13.21 ; 2.6,14.73 2.6,15.75 ; 2.6,17.27 2.6,18.29 ; 2.6,19.81 2.6,20.83 ; 2.6,22.35 2.6,23.37 ; 2.6,24.89 2.6,25.91
Top Assembly:
  lines w0.254: -2.54,-26.99 -3.92,-26.99 -3.92,-26.35 -2.54,-26.35 ; -2.54,-24.45 -3.92,-24.45 -3.92,-23.81 -2.54,-23.81 ; -2.54,-21.91 -3.92,-21.91 -3.92,-21.27 -2.54,-21.27 ; -2.54,-19.37 -3.92,-19.37 -3.92,-18.73 -2.54,-18.73 ; -2.54,-16.83 -3.92,-16.83 -3.92,-16.19 -2.54,-16.19 ; -2.54,-14.29 -3.92,-14.29 -3.92,-13.65 -2.54,-13.65 ; -2.54,-11.75 -3.92,-11.75 -3.92,-11.11 -2.54,-11.11 ; -2.54,-9.21 -3.92,-9.21 -3.92,-8.57 -2.54,-8.57 ; -2.54,-6.67 -3.92,-6.67 -3.92,-6.03 -2.54,-6.03 ; -2.54,-4.13 -3.92,-4.13 -3.92,-3.49 -2.54,-3.49 ; -2.54,-1.59 -3.92,-1.59 -3.92,-0.95 -2.54,-0.95 ; -2.54,0.95 -3.92,0.95 -3.92,1.59 -2.54,1.59 ; -2.54,3.49 -3.92,3.49 -3.92,4.13 -2.54,4.13 ; -2.54,6.03 -3.92,6.03 -3.92,6.67 -2.54,6.67 ; -2.54,8.57 -3.92,8.57 -3.92,9.21 -2.54,9.21 ; -2.54,11.11 -3.92,11.11 -3.92,11.75 -2.54,11.75 ; -2.54,13.65 -3.92,13.65 -3.92,14.29 -2.54,14.29 ; -2.54,16.19 -3.92,16.19 -3.92,16.83 -2.54,16.83 ; -2.54,18.73 -3.92,18.73 -3.92,19.37 -2.54,19.37 ; -2.54,21.27 -3.92,21.27 -3.92,21.91 -2.54,21.91 ; -2.54,23.81 -3.92,23.81 -3.92,24.45 -2.54,24.45 ; -2.54,26.35 -3.92,26.35 -3.92,26.99 -2.54,26.99 ; 2.54,-26.99 3.92,-26.99 3.92,-26.35 2.54,-26.35 ; 2.54,-24.45 3.92,-24.45 3.92,-23.81 2.54,-23.81 ; 2.54,-21.91 3.92,-21.91 3.92,-21.27 2.54,-21.27 ; 2.54,-19.37 3.92,-19.37 3.92,-18.73 2.54,-18.73 ; 2.54,-16.83 3.92,-16.83 3.92,-16.19 2.54,-16.19 ; 2.54,-14.29 3.92,-14.29 3.92,-13.65 2.54,-13.65 ; 2.54,-11.75 3.92,-11.75 3.92,-11.11 2.54,-11.11 ; 2.54,-9.21 3.92,-9.21 3.92,-8.57 2.54,-8.57 ; 2.54,-6.67 3.92,-6.67 3.92,-6.03 2.54,-6.03 ; 2.54,-4.13 3.92,-4.13 3.92,-3.49 2.54,-3.49 ; 2.54,-1.59 3.92,-1.59 3.92,-0.95 2.54,-0.95 ; 2.54,0.95 3.92,0.95 3.92,1.59 2.54,1.59 ; 2.54,3.49 3.92,3.49 3.92,4.13 2.54,4.13 ; 2.54,6.03 3.92,6.03 3.92,6.67 2.54,6.67 ; 2.54,8.57 3.92,8.57 3.92,9.21 2.54,9.21 ; 2.54,11.11 3.92,11.11 3.92,11.75 2.54,11.75 ; 2.54,13.65 3.92,13.65 3.92,14.29 2.54,14.29 ; 2.54,16.19 3.92,16.19 3.92,16.83 2.54,16.83 ; 2.54,18.73 3.92,18.73 3.92,19.37 2.54,19.37 ; 2.54,21.27 3.92,21.27 3.92,21.91 2.54,21.91 ; 2.54,23.81 3.92,23.81 3.92,24.45 2.54,24.45 ; 2.54,26.35 3.92,26.35 3.92,26.99 2.54,26.99 ; -2.54,-27.94 2.54,-27.94 2.54,26.94 1.54,27.94 -2.54,27.94 -2.54,-27.94
  text "'.Designator'" at 0.84,-4.047 h1
Top Courtyard:
  lines w0.254: -4.55,-28.45 4.5,-28.45 4.5,28.45 -4.55,28.45 -4.55,-28.45
Top Designator:
  text ".Designator" at -7.643,-0.508 h1.52

## PinSocket_2x23_P2.54mm_Horizontal [mm]
pads (46):
  rect 1.7x1.7 hole 1: 1(0,0)
  round 1.7 hole 1: 2(-2.54,0) 3(0,-2.54) 4(-2.54,-2.54) 5(0,-5.08) 6(-2.54,-5.08) 7(0,-7.62) 8(-2.54,-7.62) 9(0,-10.16) 10(-2.54,-10.16) 11(0,-12.7) 12(-2.54,-12.7) 13(0,-15.24) 14(-2.54,-15.24) 15(0,-17.78) 16(-2.54,-17.78) 17(0,-20.32) 18(-2.54,-20.32) 19(0,-22.86) 20(-2.54,-22.86) 21(0,-25.4) 22(-2.54,-25.4) 23(0,-27.94) 24(-2.54,-27.94) 25(0,-30.48) 26(-2.54,-30.48) 27(0,-33.02) 28(-2.54,-33.02) 29(0,-35.56) 30(-2.54,-35.56) 31(0,-38.1) 32(-2.54,-38.1) 33(0,-40.64) 34(-2.54,-40.64) 35(0,-43.18) 36(-2.54,-43.18) 37(0,-45.72) 38(-2.54,-45.72) 39(0,-48.26) 40(-2.54,-48.26) 41(0,-50.8) 42(-2.54,-50.8) 43(0,-53.34) 44(-2.54,-53.34) 45(0,-55.88) 46(-2.54,-55.88)
F.SilkS:
  lines w0.254: -12.63,-54.61 -4,-54.61 ; -12.63,-52.07 -4,-52.07 ; -12.63,-49.53 -4,-49.53 ; -12.63,-46.99 -4,-46.99 ; -12.63,-44.45 -4,-44.45 ; -12.63,-41.91 -4,-41.91 ; -12.63,-39.37 -4,-39.37 ; -12.63,-36.83 -4,-36.83 ; -12.63,-34.29 -4,-34.29 ; -12.63,-31.75 -4,-31.75 ; -12.63,-29.21 -4,-29.21 ; -12.63,-26.67 -4,-26.67 ; -12.63,-24.13 -4,-24.13 ; -12.63,-21.59 -4,-21.59 ; -12.63,-19.05 -4,-19.05 ; -12.63,-16.51 -4,-16.51 ; -12.63,-13.97 -4,-13.97 ; -12.63,-11.43 -4,-11.43 ; -12.63,-8.89 -4,-8.89 ; -12.63,-6.35 -4,-6.35 ; -12.63,-3.81 -4,-3.81 ; -12.63,-1.27 -4,-1.27 ; -12.63,-1.152 -4,-1.152 ; -12.63,-1.034 -4,-1.034 ; -12.63,-0.916 -4,-0.916 ; -12.63,-0.798 -4,-0.798 ; -12.63,-0.68 -4,-0.68 ; -12.63,-0.561 -4,-0.561 ; -12.63,-0.443 -4,-0.443 ; -12.63,-0.325 -4,-0.325 ; -12.63,-0.207 -4,-0.207 ; -12.63,-0.089 -4,-0.089 ; -12.63,0.029 -4,0.029 ; -12.63,0.147 -4,0.147 ; -12.63,0.265 -4,0.265 ; -12.63,0.383 -4,0.383 ; -12.63,0.501 -4,0.501 ; -12.63,0.62 -4,0.62 ; -12.63,0.738 -4,0.738 ; -12.63,0.856 -4,0.856 ; -12.63,0.974 -4,0.974 ; -12.63,1.092 -4,1.092 ; -12.63,1.21 -4,1.21 ; -4,-56.24 -3.59,-56.24 ; -4,-55.52 -3.59,-55.52 ; -4,-53.7 -3.59,-53.7 ; -4,-52.98 -3.59,-52.98 ; -4,-51.16 -3.59,-51.16 ; -4,-50.44 -3.59,-50.44 ; -4,-48.62 -3.59,-48.62 ; -4,-47.9 -3.59,-47.9 ; -4,-46.08 -3.59,-46.08 ; -4,-45.36 -3.59,-45.36 ; -4,-43.54 -3.59,-43.54 ; -4,-42.82 -3.59,-42.82 ; -4,-41 -3.59,-41 ; -4,-40.28 -3.59,-40.28 ; -4,-38.46 -3.59,-38.46 ; -4,-37.74 -3.59,-37.74 ; -4,-35.92 -3.59,-35.92 ; -4,-35.2 -3.59,-35.2 ; -4,-33.38 -3.59,-33.38 ; -4,-32.66 -3.59,-32.66 ; -4,-30.84 -3.59,-30.84 ; -4,-30.12 -3.59,-30.12 ; -4,-28.3 -3.59,-28.3 ; -4,-27.58 -3.59,-27.58 ; -4,-25.76 -3.59,-25.76 ; -4,-25.04 -3.59,-25.04 ; -4,-23.22 -3.59,-23.22 ; -4,-22.5 -3.59,-22.5 ; -4,-20.68 -3.59,-20.68 ; -4,-19.96 -3.59,-19.96 ; -4,-18.14 -3.59,-18.14 ; -4,-17.42 -3.59,-17.42 ; -4,-15.6 -3.59,-15.6 ; -4,-14.88 -3.59,-14.88 ; -4,-13.06 -3.59,-13.06 ; -4,-12.34 -3.59,-12.34 ; -4,-10.52 -3.59,-10.52 ; -4,-9.8 -3.59,-9.8 ; -4,-7.98 -3.59,-7.98 ; -4,-7.26 -3.59,-7.26 ; -4,-5.44 -3.59,-5.44 ; -4,-4.72 -3.59,-4.72 ; -4,-2.9 -3.59,-2.9 ; -4,-2.18 -3.59,-2.18 ; -4,-0.36 -3.59,-0.36 ; -4,0.36 -3.59,0.36 ; -1.49,-56.24 -1.05,-56.24 ; -1.49,-55.52 -1.05,-55.52 ; -1.49,-53.7 -1.05,-53.7 ; -1.49,-52.98 -1.05,-52.98 ; -1.49,-51.16 -1.05,-51.16 ; -1.49,-50.44 -1.05,-50.44 ; -1.49,-48.62 -1.05,-48.62 ; -1.49,-47.9 -1.05,-47.9 ; -1.49,-46.08 -1.05,-46.08 ; -1.49,-45.36 -1.05,-45.36 ; -1.49,-43.54 -1.05,-43.54 ; -1.49,-42.82 -1.05,-42.82 ; -1.49,-41 -1.05,-41 ; -1.49,-40.28 -1.05,-40.28 ; -1.49,-38.46 -1.05,-38.46 ; -1.49,-37.74 -1.05,-37.74 ; -1.49,-35.92 -1.05,-35.92 ; -1.49,-35.2 -1.05,-35.2 ; -1.49,-33.38 -1.05,-33.38 ; -1.49,-32.66 -1.05,-32.66 ; -1.49,-30.84 -1.05,-30.84 ; -1.49,-30.12 -1.05,-30.12 ; -1.49,-28.3 -1.05,-28.3 ; -1.49,-27.58 -1.05,-27.58 ; -1.49,-25.76 -1.05,-25.76 ; -1.49,-25.04 -1.05,-25.04 ; -1.49,-23.22 -1.05,-23.22 ; -1.49,-22.5 -1.05,-22.5 ; -1.49,-20.68 -1.05,-20.68 ; -1.49,-19.96 -1.05,-19.96 ; -1.49,-18.14 -1.05,-18.14 ; -1.49,-17.42 -1.05,-17.42 ; -1.49,-15.6 -1.05,-15.6 ; -1.49,-14.88 -1.05,-14.88 ; -1.49,-13.06 -1.05,-13.06 ; -1.49,-12.34 -1.05,-12.34 ; -1.49,-10.52 -1.05,-10.52 ; -1.49,-9.8 -1.05,-9.8 ; -1.49,-7.98 -1.05,-7.98 ; -1.49,-7.26 -1.05,-7.26 ; -1.49,-5.44 -1.05,-5.44 ; -1.49,-4.72 -1.05,-4.72 ; -1.49,-2.9 -1.05,-2.9 ; -1.49,-2.18 -1.05,-2.18 ; -1.49,-0.36 -1.11,-0.36 ; -1.49,0.36 -1.11,0.36 ; 0,1.33 1.11,1.33 1.11,0 ; -12.63,-57.21 -4,-57.21 -4,1.33 -12.63,1.33 -12.63,-57.21
Top Assembly:
  lines w0.254: -4.06,-56.18 0,-56.18 0,-55.58 -4.06,-55.58 ; -4.06,-53.64 0,-53.64 0,-53.04 -4.06,-53.04 ; -4.06,-51.1 0,-51.1 0,-50.5 -4.06,-50.5 ; -4.06,-48.56 0,-48.56 0,-47.96 -4.06,-47.96 ; -4.06,-46.02 0,-46.02 0,-45.42 -4.06,-45.42 ; -4.06,-43.48 0,-43.48 0,-42.88 -4.06,-42.88 ; -4.06,-40.94 0,-40.94 0,-40.34 -4.06,-40.34 ; -4.06,-38.4 0,-38.4 0,-37.8 -4.06,-37.8 ; -4.06,-35.86 0,-35.86 0,-35.26 -4.06,-35.26 ; -4.06,-33.32 0,-33.32 0,-32.72 -4.06,-32.72 ; -4.06,-30.78 0,-30.78 0,-30.18 -4.06,-30.18 ; -4.06,-28.24 0,-28.24 0,-27.64 -4.06,-27.64 ; -4.06,-25.7 0,-25.7 0,-25.1 -4.06,-25.1 ; -4.06,-23.16 0,-23.16 0,-22.56 -4.06,-22.56 ; -4.06,-20.62 0,-20.62 0,-20.02 -4.06,-20.02 ; -4.06,-18.08 0,-18.08 0,-17.48 -4.06,-17.48 ; -4.06,-15.54 0,-15.54 0,-14.94 -4.06,-14.94 ; -4.06,-13 0,-13 0,-12.4 -4.06,-12.4 ; -4.06,-10.46 0,-10.46 0,-9.86 -4.06,-9.86 ; -4.06,-7.92 0,-7.92 0,-7.32 -4.06,-7.32 ; -4.06,-5.38 0,-5.38 0,-4.78 -4.06,-4.78 ; -4.06,-2.84 0,-2.84 0,-2.24 -4.06,-2.24 ; -4.06,-0.3 0,-0.3 0,0.3 -4.06,0.3 ; -4.06,0.3 -4.06,-57.15 -12.57,-57.15 -12.57,1.27 -5.03,1.27 -4.06,0.3
  text "'.Designator'" at -7.475,-31.987 h1
Top Courtyard:
  lines w0.254: -13.05,-57.65 1.8,-57.65 1.8,1.8 -13.05,1.8 -13.05,-57.65
Top Designator:
  text ".Designator" at -13.243,-28.433 h1.52

## PinSocket_2x23_P2.54mm_Vertical [mm]
pads (46):
  rect 1.7x1.7 hole 1: 1(0,0)
  round 1.7 hole 1: 2(-2.54,0) 3(0,-2.54) 4(-2.54,-2.54) 5(0,-5.08) 6(-2.54,-5.08) 7(0,-7.62) 8(-2.54,-7.62) 9(0,-10.16) 10(-2.54,-10.16) 11(0,-12.7) 12(-2.54,-12.7) 13(0,-15.24) 14(-2.54,-15.24) 15(0,-17.78) 16(-2.54,-17.78) 17(0,-20.32) 18(-2.54,-20.32) 19(0,-22.86) 20(-2.54,-22.86) 21(0,-25.4) 22(-2.54,-25.4) 23(0,-27.94) 24(-2.54,-27.94) 25(0,-30.48) 26(-2.54,-30.48) 27(0,-33.02) 28(-2.54,-33.02) 29(0,-35.56) 30(-2.54,-35.56) 31(0,-38.1) 32(-2.54,-38.1) 33(0,-40.64) 34(-2.54,-40.64) 35(0,-43.18) 36(-2.54,-43.18) 37(0,-45.72) 38(-2.54,-45.72) 39(0,-48.26) 40(-2.54,-48.26) 41(0,-50.8) 42(-2.54,-50.8) 43(0,-53.34) 44(-2.54,-53.34) 45(0,-55.88) 46(-2.54,-55.88)
F.SilkS:
  lines w0.254: 0,1.33 1.33,1.33 1.33,0 ; -3.87,-57.21 1.33,-57.21 1.33,-1.27 -1.27,-1.27 -1.27,1.33 -3.87,1.33 -3.87,-57.21
Top Assembly:
  lines w0.254: -3.81,-57.15 1.27,-57.15 1.27,0.27 0.27,1.27 -3.81,1.27 -3.81,-57.15
  text "'.Designator'" at -0.43,-31.987 h1
Top Courtyard:
  lines w0.254: -4.34,-57.65 1.76,-57.65 1.76,1.8 -4.34,1.8 -4.34,-57.65
Top Designator:
  text ".Designator" at -8.908,-28.433 h1.52

## PinSocket_2x23_P2.54mm_Vertical_SMD [mm]
pads (46):
  rect 3x1 smd: 1(2.52,27.94) 2(-2.52,27.94) 3(2.52,25.4) 4(-2.52,25.4) 5(2.52,22.86) 6(-2.52,22.86) 7(2.52,20.32) 8(-2.52,20.32) 9(2.52,17.78) 10(-2.52,17.78) 11(2.52,15.24) 12(-2.52,15.24) 13(2.52,12.7) 14(-2.52,12.7) 15(2.52,10.16) 16(-2.52,10.16) 17(2.52,7.62) 18(-2.52,7.62) 19(2.52,5.08) 20(-2.52,5.08) 21(2.52,2.54) 22(-2.52,2.54) 23(2.52,0) 24(-2.52,0) 25(2.52,-2.54) 26(-2.52,-2.54) 27(2.52,-5.08) 28(-2.52,-5.08) 29(2.52,-7.62) 30(-2.52,-7.62) 31(2.52,-10.16) 32(-2.52,-10.16) 33(2.52,-12.7) 34(-2.52,-12.7) 35(2.52,-15.24) 36(-2.52,-15.24) 37(2.52,-17.78) 38(-2.52,-17.78) 39(2.52,-20.32) 40(-2.52,-20.32) 41(2.52,-22.86) 42(-2.52,-22.86) 43(2.52,-25.4) 44(-2.52,-25.4) 45(2.52,-27.94) 46(-2.52,-27.94)
F.SilkS:
  lines w0.254: -2.6,-28.7 -2.6,-29.27 2.6,-29.27 2.6,-28.7 ; -2.6,-27.18 -2.6,-26.16 ; -2.6,-24.64 -2.6,-23.62 ; -2.6,-22.1 -2.6,-21.08 ; -2.6,-19.56 -2.6,-18.54 ; -2.6,-17.02 -2.6,-16 ; -2.6,-14.48 -2.6,-13.46 ; -2.6,-11.94 -2.6,-10.92 ; -2.6,-9.4 -2.6,-8.38 ; -2.6,-6.86 -2.6,-5.84 ; -2.6,-4.32 -2.6,-3.3 ; -2.6,-1.78 -2.6,-0.76 ; -2.6,0.76 -2.6,1.78 ; -2.6,3.3 -2.6,4.32 ; -2.6,5.84 -2.6,6.86 ; -2.6,8.38 -2.6,9.4 ; -2.6,10.92 -2.6,11.94 ; -2.6,13.46 -2.6,14.48 ; -2.6,16 -2.6,17.02 ; -2.6,18.54 -2.6,19.56 ; -2.6,21.08 -2.6,22.1 ; -2.6,23.62 -2.6,24.64 ; -2.6,26.16 -2.6,27.18 ; -2.6,28.7 -2.6,29.27 2.6,29.27 2.6,28.7 3.96,28.7 ; 2.6,-27.18 2.6,-26.16 ; 2.6,-24.64 2.6,-23.62 ; 2.6,-22.1 2.6,-21.08 ; 2.6,-19.56 2.6,-18.54 ; 2.6,-17.02 2.6,-16 ; 2.6,-14.48 2.6,-13.46 ; 2.6,-11.94 2.6,-10.92 ; 2.6,-9.4 2.6,-8.38 ; 2.6,-6.86 2.6,-5.84 ; 2.6,-4.32 2.6,-3.3 ; 2.6,-1.78 2.6,-0.76 ; 2.6,0.76 2.6,1.78 ; 2.6,3.3 2.6,4.32 ; 2.6,5.84 2.6,6.86 ; 2.6,8.38 2.6,9.4 ; 2.6,10.92 2.6,11.94 ; 2.6,13.46 2.6,14.48 ; 2.6,16 2.6,17.02 ; 2.6,18.54 2.6,19.56 ; 2.6,21.08 2.6,22.1 ; 2.6,23.62 2.6,24.64 ; 2.6,26.16 2.6,27.18
Top Assembly:
  lines w0.254: -2.54,-28.26 -3.92,-28.26 -3.92,-27.62 -2.54,-27.62 ; -2.54,-25.72 -3.92,-25.72 -3.92,-25.08 -2.54,-25.08 ; -2.54,-23.18 -3.92,-23.18 -3.92,-22.54 -2.54,-22.54 ; -2.54,-20.64 -3.92,-20.64 -3.92,-20 -2.54,-20 ; -2.54,-18.1 -3.92,-18.1 -3.92,-17.46 -2.54,-17.46 ; -2.54,-15.56 -3.92,-15.56 -3.92,-14.92 -2.54,-14.92 ; -2.54,-13.02 -3.92,-13.02 -3.92,-12.38 -2.54,-12.38 ; -2.54,-10.48 -3.92,-10.48 -3.92,-9.84 -2.54,-9.84 ; -2.54,-7.94 -3.92,-7.94 -3.92,-7.3 -2.54,-7.3 ; -2.54,-5.4 -3.92,-5.4 -3.92,-4.76 -2.54,-4.76 ; -2.54,-2.86 -3.92,-2.86 -3.92,-2.22 -2.54,-2.22 ; -2.54,-0.32 -3.92,-0.32 -3.92,0.32 -2.54,0.32 ; -2.54,2.22 -3.92,2.22 -3.92,2.86 -2.54,2.86 ; -2.54,4.76 -3.92,4.76 -3.92,5.4 -2.54,5.4 ; -2.54,7.3 -3.92,7.3 -3.92,7.94 -2.54,7.94 ; -2.54,9.84 -3.92,9.84 -3.92,10.48 -2.54,10.48 ; -2.54,12.38 -3.92,12.38 -3.92,13.02 -2.54,13.02 ; -2.54,14.92 -3.92,14.92 -3.92,15.56 -2.54,15.56 ; -2.54,17.46 -3.92,17.46 -3.92,18.1 -2.54,18.1 ; -2.54,20 -3.92,20 -3.92,20.64 -2.54,20.64 ; -2.54,22.54 -3.92,22.54 -3.92,23.18 -2.54,23.18 ; -2.54,25.08 -3.92,25.08 -3.92,25.72 -2.54,25.72 ; -2.54,27.62 -3.92,27.62 -3.92,28.26 -2.54,28.26 ; 2.54,-28.26 3.92,-28.26 3.92,-27.62 2.54,-27.62 ; 2.54,-25.72 3.92,-25.72 3.92,-25.08 2.54,-25.08 ; 2.54,-23.18 3.92,-23.18 3.92,-22.54 2.54,-22.54 ; 2.54,-20.64 3.92,-20.64 3.92,-20 2.54,-20 ; 2.54,-18.1 3.92,-18.1 3.92,-17.46 2.54,-17.46 ; 2.54,-15.56 3.92,-15.56 3.92,-14.92 2.54,-14.92 ; 2.54,-13.02 3.92,-13.02 3.92,-12.38 2.54,-12.38 ; 2.54,-10.48 3.92,-10.48 3.92,-9.84 2.54,-9.84 ; 2.54,-7.94 3.92,-7.94 3.92,-7.3 2.54,-7.3 ; 2.54,-5.4 3.92,-5.4 3.92,-4.76 2.54,-4.76 ; 2.54,-2.86 3.92,-2.86 3.92,-2.22 2.54,-2.22 ; 2.54,-0.32 3.92,-0.32 3.92,0.32 2.54,0.32 ; 2.54,2.22 3.92,2.22 3.92,2.86 2.54,2.86 ; 2.54,4.76 3.92,4.76 3.92,5.4 2.54,5.4 ; 2.54,7.3 3.92,7.3 3.92,7.94 2.54,7.94 ; 2.54,9.84 3.92,9.84 3.92,10.48 2.54,10.48 ; 2.54,12.38 3.92,12.38 3.92,13.02 2.54,13.02 ; 2.54,14.92 3.92,14.92 3.92,15.56 2.54,15.56 ; 2.54,17.46 3.92,17.46 3.92,18.1 2.54,18.1 ; 2.54,20 3.92,20 3.92,20.64 2.54,20.64 ; 2.54,22.54 3.92,22.54 3.92,23.18 2.54,23.18 ; 2.54,25.08 3.92,25.08 3.92,25.72 2.54,25.72 ; 2.54,27.62 3.92,27.62 3.92,28.26 2.54,28.26 ; -2.54,-29.21 2.54,-29.21 2.54,28.21 1.54,29.21 -2.54,29.21 -2.54,-29.21
  text "'.Designator'" at 0.84,-4.047 h1
Top Courtyard:
  lines w0.254: -4.55,-29.7 4.5,-29.7 4.5,29.75 -4.55,29.75 -4.55,-29.7
Top Designator:
  text ".Designator" at -7.643,-0.483 h1.52

## PinSocket_2x24_P2.54mm_Horizontal [mm]
pads (48):
  rect 1.7x1.7 hole 1: 1(0,0)
  round 1.7 hole 1: 2(-2.54,0) 3(0,-2.54) 4(-2.54,-2.54) 5(0,-5.08) 6(-2.54,-5.08) 7(0,-7.62) 8(-2.54,-7.62) 9(0,-10.16) 10(-2.54,-10.16) 11(0,-12.7) 12(-2.54,-12.7) 13(0,-15.24) 14(-2.54,-15.24) 15(0,-17.78) 16(-2.54,-17.78) 17(0,-20.32) 18(-2.54,-20.32) 19(0,-22.86) 20(-2.54,-22.86) 21(0,-25.4) 22(-2.54,-25.4) 23(0,-27.94) 24(-2.54,-27.94) 25(0,-30.48) 26(-2.54,-30.48) 27(0,-33.02) 28(-2.54,-33.02) 29(0,-35.56) 30(-2.54,-35.56) 31(0,-38.1) 32(-2.54,-38.1) 33(0,-40.64) 34(-2.54,-40.64) 35(0,-43.18) 36(-2.54,-43.18) 37(0,-45.72) 38(-2.54,-45.72) 39(0,-48.26) 40(-2.54,-48.26) 41(0,-50.8) 42(-2.54,-50.8) 43(0,-53.34) 44(-2.54,-53.34) 45(0,-55.88) 46(-2.54,-55.88) 47(0,-58.42) 48(-2.54,-58.42)
F.SilkS:
  lines w0.254: -12.63,-57.15 -4,-57.15 ; -12.63,-54.61 -4,-54.61 ; -12.63,-52.07 -4,-52.07 ; -12.63,-49.53 -4,-49.53 ; -12.63,-46.99 -4,-46.99 ; -12.63,-44.45 -4,-44.45 ; -12.63,-41.91 -4,-41.91 ; -12.63,-39.37 -4,-39.37 ; -12.63,-36.83 -4,-36.83 ; -12.63,-34.29 -4,-34.29 ; -12.63,-31.75 -4,-31.75 ; -12.63,-29.21 -4,-29.21 ; -12.63,-26.67 -4,-26.67 ; -12.63,-24.13 -4,-24.13 ; -12.63,-21.59 -4,-21.59 ; -12.63,-19.05 -4,-19.05 ; -12.63,-16.51 -4,-16.51 ; -12.63,-13.97 -4,-13.97 ; -12.63,-11.43 -4,-11.43 ; -12.63,-8.89 -4,-8.89 ; -12.63,-6.35 -4,-6.35 ; -12.63,-3.81 -4,-3.81 ; -12.63,-1.27 -4,-1.27 ; -12.63,-1.152 -4,-1.152 ; -12.63,-1.034 -4,-1.034 ; -12.63,-0.916 -4,-0.916 ; -12.63,-0.798 -4,-0.798 ; -12.63,-0.68 -4,-0.68 ; -12.63,-0.561 -4,-0.561 ; -12.63,-0.443 -4,-0.443 ; -12.63,-0.325 -4,-0.325 ; -12.63,-0.207 -4,-0.207 ; -12.63,-0.089 -4,-0.089 ; -12.63,0.029 -4,0.029 ; -12.63,0.147 -4,0.147 ; -12.63,0.265 -4,0.265 ; -12.63,0.383 -4,0.383 ; -12.63,0.501 -4,0.501 ; -12.63,0.62 -4,0.62 ; -12.63,0.738 -4,0.738 ; -12.63,0.856 -4,0.856 ; -12.63,0.974 -4,0.974 ; -12.63,1.092 -4,1.092 ; -12.63,1.21 -4,1.21 ; -4,-58.78 -3.59,-58.78 ; -4,-58.06 -3.59,-58.06 ; -4,-56.24 -3.59,-56.24 ; -4,-55.52 -3.59,-55.52 ; -4,-53.7 -3.59,-53.7 ; -4,-52.98 -3.59,-52.98 ; -4,-51.16 -3.59,-51.16 ; -4,-50.44 -3.59,-50.44 ; -4,-48.62 -3.59,-48.62 ; -4,-47.9 -3.59,-47.9 ; -4,-46.08 -3.59,-46.08 ; -4,-45.36 -3.59,-45.36 ; -4,-43.54 -3.59,-43.54 ; -4,-42.82 -3.59,-42.82 ; -4,-41 -3.59,-41 ; -4,-40.28 -3.59,-40.28 ; -4,-38.46 -3.59,-38.46 ; -4,-37.74 -3.59,-37.74 ; -4,-35.92 -3.59,-35.92 ; -4,-35.2 -3.59,-35.2 ; -4,-33.38 -3.59,-33.38 ; -4,-32.66 -3.59,-32.66 ; -4,-30.84 -3.59,-30.84 ; -4,-30.12 -3.59,-30.12 ; -4,-28.3 -3.59,-28.3 ; -4,-27.58 -3.59,-27.58 ; -4,-25.76 -3.59,-25.76 ; -4,-25.04 -3.59,-25.04 ; -4,-23.22 -3.59,-23.22 ; -4,-22.5 -3.59,-22.5 ; -4,-20.68 -3.59,-20.68 ; -4,-19.96 -3.59,-19.96 ; -4,-18.14 -3.59,-18.14 ; -4,-17.42 -3.59,-17.42 ; -4,-15.6 -3.59,-15.6 ; -4,-14.88 -3.59,-14.88 ; -4,-13.06 -3.59,-13.06 ; -4,-12.34 -3.59,-12.34 ; -4,-10.52 -3.59,-10.52 ; -4,-9.8 -3.59,-9.8 ; -4,-7.98 -3.59,-7.98 ; -4,-7.26 -3.59,-7.26 ; -4,-5.44 -3.59,-5.44 ; -4,-4.72 -3.59,-4.72 ; -4,-2.9 -3.59,-2.9 ; -4,-2.18 -3.59,-2.18 ; -4,-0.36 -3.59,-0.36 ; -4,0.36 -3.59,0.36 ; -1.49,-58.78 -1.05,-58.78 ; -1.49,-58.06 -1.05,-58.06 ; -1.49,-56.24 -1.05,-56.24 ; -1.49,-55.52 -1.05,-55.52 ; -1.49,-53.7 -1.05,-53.7 ; -1.49,-52.98 -1.05,-52.98 ; -1.49,-51.16 -1.05,-51.16 ; -1.49,-50.44 -1.05,-50.44 ; -1.49,-48.62 -1.05,-48.62 ; -1.49,-47.9 -1.05,-47.9 ; -1.49,-46.08 -1.05,-46.08 ; -1.49,-45.36 -1.05,-45.36 ; -1.49,-43.54 -1.05,-43.54 ; -1.49,-42.82 -1.05,-42.82 ; -1.49,-41 -1.05,-41 ; -1.49,-40.28 -1.05,-40.28 ; -1.49,-38.46 -1.05,-38.46 ; -1.49,-37.74 -1.05,-37.74 ; -1.49,-35.92 -1.05,-35.92 ; -1.49,-35.2 -1.05,-35.2 ; -1.49,-33.38 -1.05,-33.38 ; -1.49,-32.66 -1.05,-32.66 ; -1.49,-30.84 -1.05,-30.84 ; -1.49,-30.12 -1.05,-30.12 ; -1.49,-28.3 -1.05,-28.3 ; -1.49,-27.58 -1.05,-27.58 ; -1.49,-25.76 -1.05,-25.76 ; -1.49,-25.04 -1.05,-25.04 ; -1.49,-23.22 -1.05,-23.22 ; -1.49,-22.5 -1.05,-22.5 ; -1.49,-20.68 -1.05,-20.68 ; -1.49,-19.96 -1.05,-19.96 ; -1.49,-18.14 -1.05,-18.14 ; -1.49,-17.42 -1.05,-17.42 ; -1.49,-15.6 -1.05,-15.6 ; -1.49,-14.88 -1.05,-14.88 ; -1.49,-13.06 -1.05,-13.06 ; -1.49,-12.34 -1.05,-12.34 ; -1.49,-10.52 -1.05,-10.52 ; -1.49,-9.8 -1.05,-9.8 ; -1.49,-7.98 -1.05,-7.98 ; -1.49,-7.26 -1.05,-7.26 ; -1.49,-5.44 -1.05,-5.44 ; -1.49,-4.72 -1.05,-4.72 ; -1.49,-2.9 -1.05,-2.9 ; -1.49,-2.18 -1.05,-2.18 ; -1.49,-0.36 -1.11,-0.36 ; -1.49,0.36 -1.11,0.36 ; 0,1.33 1.11,1.33 1.11,0 ; -12.63,-59.75 -4,-59.75 -4,1.33 -12.63,1.33 -12.63,-59.75
Top Assembly:
  lines w0.254: -4.06,-58.72 0,-58.72 0,-58.12 -4.06,-58.12 ; -4.06,-56.18 0,-56.18 0,-55.58 -4.06,-55.58 ; -4.06,-53.64 0,-53.64 0,-53.04 -4.06,-53.04 ; -4.06,-51.1 0,-51.1 0,-50.5 -4.06,-50.5 ; -4.06,-48.56 0,-48.56 0,-47.96 -4.06,-47.96 ; -4.06,-46.02 0,-46.02 0,-45.42 -4.06,-45.42 ; -4.06,-43.48 0,-43.48 0,-42.88 -4.06,-42.88 ; -4.06,-40.94 0,-40.94 0,-40.34 -4.06,-40.34 ; -4.06,-38.4 0,-38.4 0,-37.8 -4.06,-37.8 ; -4.06,-35.86 0,-35.86 0,-35.26 -4.06,-35.26 ; -4.06,-33.32 0,-33.32 0,-32.72 -4.06,-32.72 ; -4.06,-30.78 0,-30.78 0,-30.18 -4.06,-30.18 ; -4.06,-28.24 0,-28.24 0,-27.64 -4.06,-27.64 ; -4.06,-25.7 0,-25.7 0,-25.1 -4.06,-25.1 ; -4.06,-23.16 0,-23.16 0,-22.56 -4.06,-22.56 ; -4.06,-20.62 0,-20.62 0,-20.02 -4.06,-20.02 ; -4.06,-18.08 0,-18.08 0,-17.48 -4.06,-17.48 ; -4.06,-15.54 0,-15.54 0,-14.94 -4.06,-14.94 ; -4.06,-13 0,-13 0,-12.4 -4.06,-12.4 ; -4.06,-10.46 0,-10.46 0,-9.86 -4.06,-9.86 ; -4.06,-7.92 0,-7.92 0,-7.32 -4.06,-7.32 ; -4.06,-5.38 0,-5.38 0,-4.78 -4.06,-4.78 ; -4.06,-2.84 0,-2.84 0,-2.24 -4.06,-2.24 ; -4.06,-0.3 0,-0.3 0,0.3 -4.06,0.3 ; -4.06,0.3 -4.06,-59.69 -12.57,-59.69 -12.57,1.27 -5.03,1.27 -4.06,0.3
  text "'.Designator'" at -7.475,-33.257 h1
Top Courtyard:
  lines w0.254: -13.05,-60.25 1.8,-60.25 1.8,1.75 -13.05,1.75 -13.05,-60.25
Top Designator:
  text ".Designator" at -13.243,-29.758 h1.52

## PinSocket_2x24_P2.54mm_Vertical [mm]
pads (48):
  rect 1.7x1.7 hole 1: 1(0,0)
  round 1.7 hole 1: 2(-2.54,0) 3(0,-2.54) 4(-2.54,-2.54) 5(0,-5.08) 6(-2.54,-5.08) 7(0,-7.62) 8(-2.54,-7.62) 9(0,-10.16) 10(-2.54,-10.16) 11(0,-12.7) 12(-2.54,-12.7) 13(0,-15.24) 14(-2.54,-15.24) 15(0,-17.78) 16(-2.54,-17.78) 17(0,-20.32) 18(-2.54,-20.32) 19(0,-22.86) 20(-2.54,-22.86) 21(0,-25.4) 22(-2.54,-25.4) 23(0,-27.94) 24(-2.54,-27.94) 25(0,-30.48) 26(-2.54,-30.48) 27(0,-33.02) 28(-2.54,-33.02) 29(0,-35.56) 30(-2.54,-35.56) 31(0,-38.1) 32(-2.54,-38.1) 33(0,-40.64) 34(-2.54,-40.64) 35(0,-43.18) 36(-2.54,-43.18) 37(0,-45.72) 38(-2.54,-45.72) 39(0,-48.26) 40(-2.54,-48.26) 41(0,-50.8) 42(-2.54,-50.8) 43(0,-53.34) 44(-2.54,-53.34) 45(0,-55.88) 46(-2.54,-55.88) 47(0,-58.42) 48(-2.54,-58.42)
F.SilkS:
  lines w0.254: 0,1.33 1.33,1.33 1.33,0 ; -3.87,-59.75 1.33,-59.75 1.33,-1.27 -1.27,-1.27 -1.27,1.33 -3.87,1.33 -3.87,-59.75
Top Assembly:
  lines w0.254: -3.81,-59.69 1.27,-59.69 1.27,0.27 0.27,1.27 -3.81,1.27 -3.81,-59.69
  text "'.Designator'" at -0.43,-33.257 h1
Top Courtyard:
  lines w0.254: -4.34,-60.2 1.76,-60.2 1.76,1.8 -4.34,1.8 -4.34,-60.2
Top Designator:
  text ".Designator" at -8.908,-29.708 h1.52

## PinSocket_2x24_P2.54mm_Vertical_SMD [mm]
pads (48):
  rect 3x1 smd: 1(2.52,29.21) 2(-2.52,29.21) 3(2.52,26.67) 4(-2.52,26.67) 5(2.52,24.13) 6(-2.52,24.13) 7(2.52,21.59) 8(-2.52,21.59) 9(2.52,19.05) 10(-2.52,19.05) 11(2.52,16.51) 12(-2.52,16.51) 13(2.52,13.97) 14(-2.52,13.97) 15(2.52,11.43) 16(-2.52,11.43) 17(2.52,8.89) 18(-2.52,8.89) 19(2.52,6.35) 20(-2.52,6.35) 21(2.52,3.81) 22(-2.52,3.81) 23(2.52,1.27) 24(-2.52,1.27) 25(2.52,-1.27) 26(-2.52,-1.27) 27(2.52,-3.81) 28(-2.52,-3.81) 29(2.52,-6.35) 30(-2.52,-6.35) 31(2.52,-8.89) 32(-2.52,-8.89) 33(2.52,-11.43) 34(-2.52,-11.43) 35(2.52,-13.97) 36(-2.52,-13.97) 37(2.52,-16.51) 38(-2.52,-16.51) 39(2.52,-19.05) 40(-2.52,-19.05) 41(2.52,-21.59) 42(-2.52,-21.59) 43(2.52,-24.13) 44(-2.52,-24.13) 45(2.52,-26.67) 46(-2.52,-26.67) 47(2.52,-29.21) 48(-2.52,-29.21)
F.SilkS:
  lines w0.254: -2.6,-29.97 -2.6,-30.54 2.6,-30.54 2.6,-29.97 ; -2.6,-28.45 -2.6,-27.43 ; -2.6,-25.91 -2.6,-24.89 ; -2.6,-23.37 -2.6,-22.35 ; -2.6,-20.83 -2.6,-19.81 ; -2.6,-18.29 -2.6,-17.27 ; -2.6,-15.75 -2.6,-14.73 ; -2.6,-13.21 -2.6,-12.19 ; -2.6,-10.67 -2.6,-9.65 ; -2.6,-8.13 -2.6,-7.11 ; -2.6,-5.59 -2.6,-4.57 ; -2.6,-3.05 -2.6,-2.03 ; -2.6,-0.51 -2.6,0.51 ; -2.6,2.03 -2.6,3.05 ; -2.6,4.57 -2.6,5.59 ; -2.6,7.11 -2.6,8.13 ; -2.6,9.65 -2.6,10.67 ; -2.6,12.19 -2.6,13.21 ; -2.6,14.73 -2.6,15.75 ; -2.6,17.27 -2.6,18.29 ; -2.6,19.81 -2.6,20.83 ; -2.6,22.35 -2.6,23.37 ; -2.6,24.89 -2.6,25.91 ; -2.6,27.43 -2.6,28.45 ; -2.6,29.97 -2.6,30.54 2.6,30.54 2.6,29.97 3.96,29.97 ; 2.6,-28.45 2.6,-27.43 ; 2.6,-25.91 2.6,-24.89 ; 2.6,-23.37 2.6,-22.35 ; 2.6,-20.83 2.6,-19.81 ; 2.6,-18.29 2.6,-17.27 ; 2.6,-15.75 2.6,-14.73 ; 2.6,-13.21 2.6,-12.19 ; 2.6,-10.67 2.6,-9.65 ; 2.6,-8.13 2.6,-7.11 ; 2.6,-5.59 2.6,-4.57 ; 2.6,-3.05 2.6,-2.03 ; 2.6,-0.51 2.6,0.51 ; 2.6,2.03 2.6,3.05 ; 2.6,4.57 2.6,5.59 ; 2.6,7.11 2.6,8.13 ; 2.6,9.65 2.6,10.67 ; 2.6,12.19 2.6,13.21 ; 2.6,14.73 2.6,15.75 ; 2.6,17.27 2.6,18.29 ; 2.6,19.81 2.6,20.83 ; 2.6,22.35 2.6,23.37 ; 2.6,24.89 2.6,25.91 ; 2.6,27.43 2.6,28.45
Top Assembly:
  lines w0.254: -2.54,-29.53 -3.92,-29.53 -3.92,-28.89 -2.54,-28.89 ; -2.54,-26.99 -3.92,-26.99 -3.92,-26.35 -2.54,-26.35 ; -2.54,-24.45 -3.92,-24.45 -3.92,-23.81 -2.54,-23.81 ; -2.54,-21.91 -3.92,-21.91 -3.92,-21.27 -2.54,-21.27 ; -2.54,-19.37 -3.92,-19.37 -3.92,-18.73 -2.54,-18.73 ; -2.54,-16.83 -3.92,-16.83 -3.92,-16.19 -2.54,-16.19 ; -2.54,-14.29 -3.92,-14.29 -3.92,-13.65 -2.54,-13.65 ; -2.54,-11.75 -3.92,-11.75 -3.92,-11.11 -2.54,-11.11 ; -2.54,-9.21 -3.92,-9.21 -3.92,-8.57 -2.54,-8.57 ; -2.54,-6.67 -3.92,-6.67 -3.92,-6.03 -2.54,-6.03 ; -2.54,-4.13 -3.92,-4.13 -3.92,-3.49 -2.54,-3.49 ; -2.54,-1.59 -3.92,-1.59 -3.92,-0.95 -2.54,-0.95 ; -2.54,0.95 -3.92,0.95 -3.92,1.59 -2.54,1.59 ; -2.54,3.49 -3.92,3.49 -3.92,4.13 -2.54,4.13 ; -2.54,6.03 -3.92,6.03 -3.92,6.67 -2.54,6.67 ; -2.54,8.57 -3.92,8.57 -3.92,9.21 -2.54,9.21 ; -2.54,11.11 -3.92,11.11 -3.92,11.75 -2.54,11.75 ; -2.54,13.65 -3.92,13.65 -3.92,14.29 -2.54,14.29 ; -2.54,16.19 -3.92,16.19 -3.92,16.83 -2.54,16.83 ; -2.54,18.73 -3.92,18.73 -3.92,19.37 -2.54,19.37 ; -2.54,21.27 -3.92,21.27 -3.92,21.91 -2.54,21.91 ; -2.54,23.81 -3.92,23.81 -3.92,24.45 -2.54,24.45 ; -2.54,26.35 -3.92,26.35 -3.92,26.99 -2.54,26.99 ; -2.54,28.89 -3.92,28.89 -3.92,29.53 -2.54,29.53 ; 2.54,-29.53 3.92,-29.53 3.92,-28.89 2.54,-28.89 ; 2.54,-26.99 3.92,-26.99 3.92,-26.35 2.54,-26.35 ; 2.54,-24.45 3.92,-24.45 3.92,-23.81 2.54,-23.81 ; 2.54,-21.91 3.92,-21.91 3.92,-21.27 2.54,-21.27 ; 2.54,-19.37 3.92,-19.37 3.92,-18.73 2.54,-18.73 ; 2.54,-16.83 3.92,-16.83 3.92,-16.19 2.54,-16.19 ; 2.54,-14.29 3.92,-14.29 3.92,-13.65 2.54,-13.65 ; 2.54,-11.75 3.92,-11.75 3.92,-11.11 2.54,-11.11 ; 2.54,-9.21 3.92,-9.21 3.92,-8.57 2.54,-8.57 ; 2.54,-6.67 3.92,-6.67 3.92,-6.03 2.54,-6.03 ; 2.54,-4.13 3.92,-4.13 3.92,-3.49 2.54,-3.49 ; 2.54,-1.59 3.92,-1.59 3.92,-0.95 2.54,-0.95 ; 2.54,0.95 3.92,0.95 3.92,1.59 2.54,1.59 ; 2.54,3.49 3.92,3.49 3.92,4.13 2.54,4.13 ; 2.54,6.03 3.92,6.03 3.92,6.67 2.54,6.67 ; 2.54,8.57 3.92,8.57 3.92,9.21 2.54,9.21 ; 2.54,11.11 3.92,11.11 3.92,11.75 2.54,11.75 ; 2.54,13.65 3.92,13.65 3.92,14.29 2.54,14.29 ; 2.54,16.19 3.92,16.19 3.92,16.83 2.54,16.83 ; 2.54,18.73 3.92,18.73 3.92,19.37 2.54,19.37 ; 2.54,21.27 3.92,21.27 3.92,21.91 2.54,21.91 ; 2.54,23.81 3.92,23.81 3.92,24.45 2.54,24.45 ; 2.54,26.35 3.92,26.35 3.92,26.99 2.54,26.99 ; 2.54,28.89 3.92,28.89 3.92,29.53 2.54,29.53 ; -2.54,-30.48 2.54,-30.48 2.54,29.48 1.54,30.48 -2.54,30.48 -2.54,-30.48
  text "'.Designator'" at 0.84,-4.047 h1
Top Courtyard:
  lines w0.254: -4.55,-31 4.5,-31 4.5,31 -4.55,31 -4.55,-31
Top Designator:
  text ".Designator" at -7.643,-0.508 h1.52